# EAGLE library part NANOPI-CORE (library mestrado)
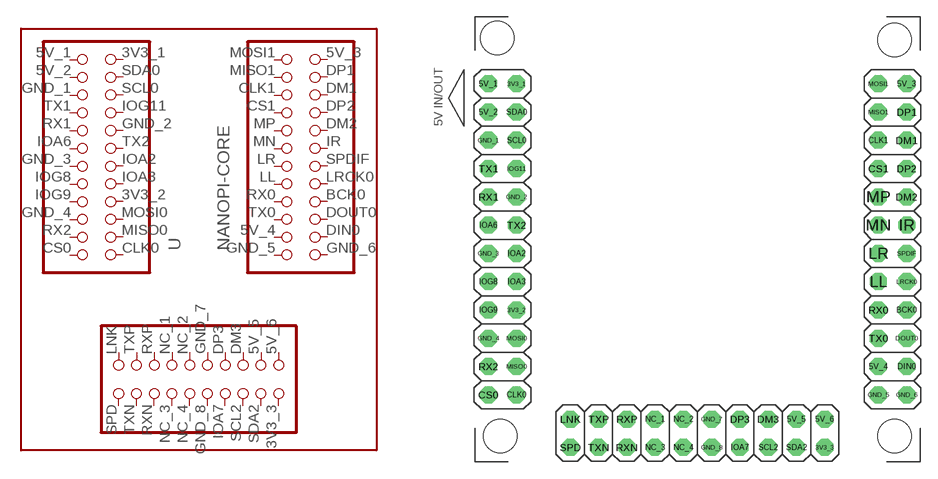
[diagram p1: symbol with the pads of PINHEAD-CON; footprint PINHEAD-CON]

Designator prefix U

## NANOPI-CORE  [PINHEAD-CON]
3V3_1  3V3_1  pas
3V3_2  3V3_2  pas
3V3_3  3V3_3  pas
5V_1  5V_1  pas
5V_2  5V_2  pas
5V_3  5V_3  pas
5V_4  5V_4  pas
5V_5  5V_5  pas
5V_6  5V_6  pas
BCK0  BCK0  pas
CLK0  CLK0  pas
CLK1  CLK1  pas
CS0  CS0  pas
CS1  CS1  pas
DIN0  DIN0  pas
DM1  DM1  pas
DM2  DM2  pas
DM3  DM3  pas
DOUT0  DOUT0  pas
DP1  DP1  pas
DP2  DP2  pas
DP3  DP3  pas
GND_1  GND_1  pas
GND_2  GND_2  pas
GND_3  GND_3  pas
GND_4  GND_4  pas
GND_5  GND_5  pas
GND_6  GND_6  pas
GND_7  GND_7  pas
GND_8  GND_8  pas
IOA2  IOA2  pas
IOA3  IOA3  pas
IOA6  IOA6  pas
IOA7  IOA7  pas
IOG8  IOG8  pas
IOG9  IOG9  pas
IOG11  IOG11  pas
IR  IR  pas
LL  LL  pas
LNK  LNK  pas
LR  LR  pas
LRCK0  LRCK0  pas
MISO0  MISO0  pas
MISO1  MISO1  pas
MN  MN  pas
MOSI0  MOSI0  pas
MOSI1  MOSI1  pas
MP  MP  pas
NC_1  NC_1  pas
NC_2  NC_2  pas
NC_3  NC_3  pas
NC_4  NC_4  pas
RX0  RX0  pas
RX1  RX1  pas
RX2  RX2  pas
RXN  RXN  pas
RXP  RXP  pas
SCL0  SCL0  pas
SCL2  SCL2  pas
SDA0  SDA0  pas
SDA2  SDA2  pas
SPD  SPD  pas
SPDIF  SPDIF  pas
TX0  TX0  pas
TX1  TX1  pas
TX2  TX2  pas
TXN  TXN  pas
TXP  TXP  pas

## Footprint PINHEAD-CON (pad centres in mm)
drill 1.016 octagon: 3V3_1 -16.245,13.97; 3V3_2 -16.245,-6.35; 3V3_3 11.43,-18.7; 5V_1 -18.785,13.97; 5V_2 -18.785,11.43; 5V_3 18.785,13.97; 5V_4 16.245,-11.43; 5V_5 8.89,-16.16; 5V_6 11.43,-16.16; BCK0 18.785,-6.35; CLK0 -16.245,-13.97; CLK1 16.245,8.89; CS0 -18.785,-13.97; CS1 16.245,6.35; DIN0 18.785,-11.43; DM1 18.785,8.89; DM2 18.785,3.81; DM3 6.35,-16.16; DOUT0 18.785,-8.89; DP1 18.785,11.43; DP2 18.785,6.35; DP3 3.81,-16.16; GND_1 -18.785,8.89; GND_2 -16.245,3.81; GND_3 -18.785,-1.27; GND_4 -18.785,-8.89; GND_5 16.245,-13.97; GND_6 18.785,-13.97; GND_7 1.27,-16.16; GND_8 1.27,-18.7; IOA2 -16.245,-1.27; IOA3 -16.245,-3.81; IOA6 -18.785,1.27; IOA7 3.81,-18.7; IOG8 -18.785,-3.81; IOG9 -18.785,-6.35; IOG11 -16.245,6.35; IR 18.785,1.27; LL 16.245,-3.81; LNK -11.43,-16.16; LR 16.245,-1.27; LRCK0 18.785,-3.81; MISO0 -16.245,-11.43; MISO1 16.245,11.43; MN 16.245,1.27; MOSI0 -16.245,-8.89; MOSI1 16.245,13.97; MP 16.245,3.81; NC_1 -3.81,-16.16; NC_2 -1.27,-16.16; NC_3 -3.81,-18.7; NC_4 -1.27,-18.7; RX0 16.245,-6.35; RX1 -18.785,3.81; RX2 -18.785,-11.43; RXN -6.35,-18.7; RXP -6.35,-16.16; SCL0 -16.245,8.89; SCL2 6.35,-18.7; SDA0 -16.245,11.43; SDA2 8.89,-18.7; SPD -11.43,-18.7; SPDIF 18.785,-1.27; TX0 16.245,-8.89; TX1 -18.785,6.35; TX2 -16.245,1.27; TXN -8.89,-18.7; TXP -8.89,-16.16
hole 3 at -17.7,-17.7
hole 3 at 17.7,-17.7
hole 3 at 17.7,17.9
hole 3 at -18,18.1